# EAGLE library part SIP5XA (library rezistory)
Rezistorová sít
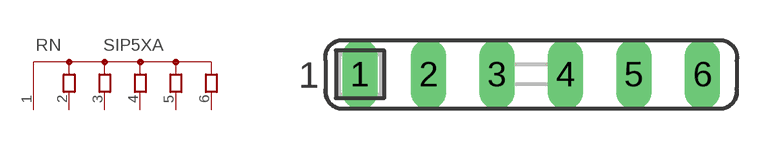
[diagram p4: symbol with the pads of SIL6; footprint SIL6]

Designator prefix RN

## SIP5XA  [SIL6]
1  IN  pas
2  B8  pas
3  B7  pas
4  B6  pas
5  B5  pas
6  B4  pas

## Footprint SIL6 (pad centres in mm)
drill 0.813 long: 1 -6.35,0; 2 -3.81,0; 3 -1.27,0; 4 1.27,0; 5 3.81,0; 6 6.35,0